# Altium schematic symbol library Connectors.SchLib: 16 symbols
Pins are listed as number, name and electrical type; pins without a type are passive.

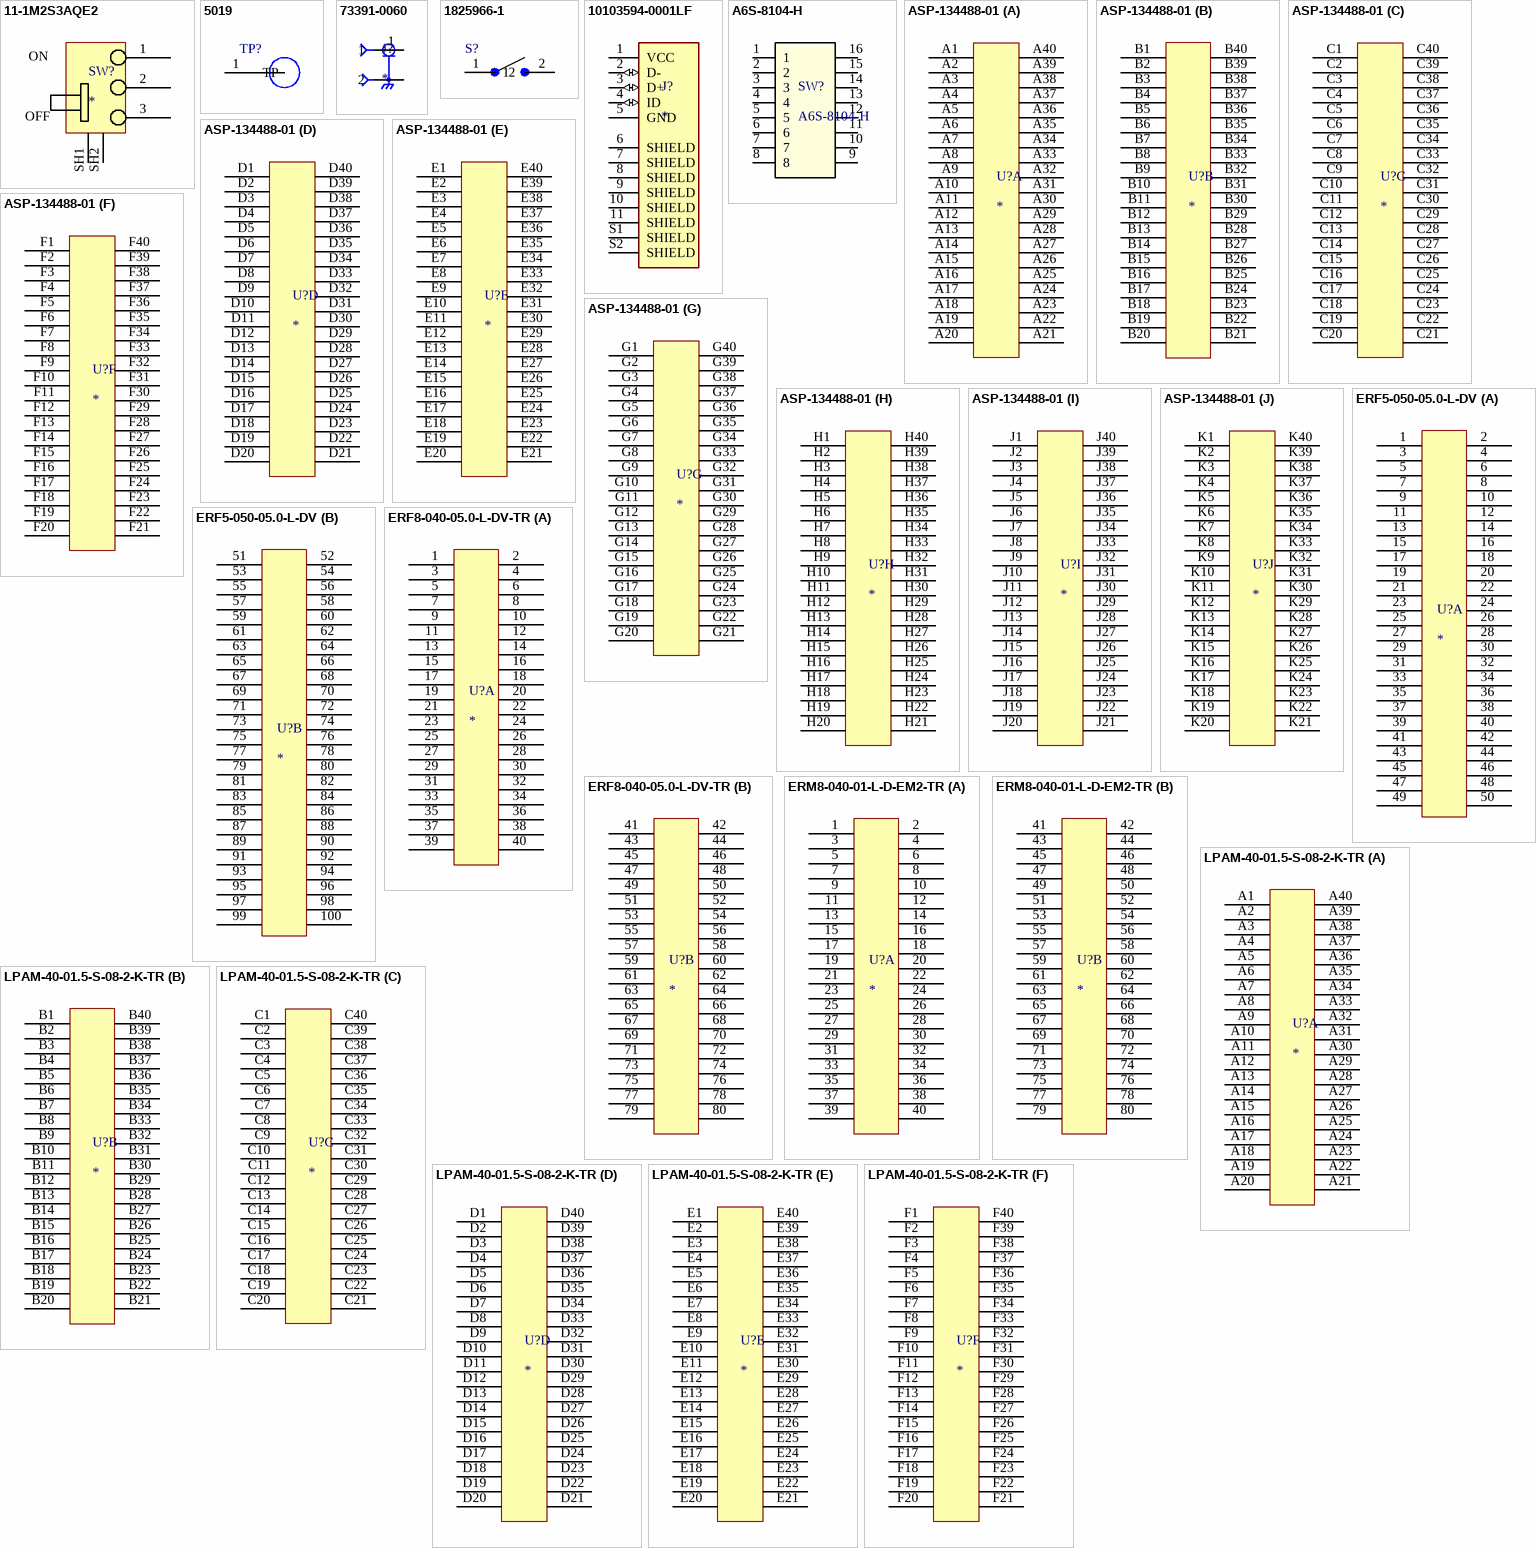
[diagram p0: symbols 11-1M2S3AQE2 to LPAM-40-01.5-S-08-2-K-TR]

## 11-1M2S3AQE2
designator SW?
SPDT, RIGHT ANGLE, PC THRU-HOLE
footprint 1101M2S3ABE2 (Horizontal Actuation SPDT Right Angle, PC THRU-HOLE); pin to pad SH1>4 SH2>5
pins: 1, 2, 3, SH1 4, SH2 5
text: ON; OFF

## 5019
designator TP?, comment Keystone_5019_Testpoint  (value not drawn)
MF: Keystone Electronics; MP: 5019; SnapEDA_Link: https://www.snapeda.com/parts/5019/Keystone%20Electronics/view-part/?ref=snap; Availability: Unavailable; Package: 2010 Keystone; Price: None; Value: *
footprint Keystone-5019-Testpoint
pins: 1 TP

## 73391-0060
designator J?
SMA Connector Receptacle, Female Socket 50Ohm Through Hole Solder; MF: Molex; MP: 73391-0060; SnapEDA_Link: https://www.snapeda.com/parts/73391-0060/Molex/view-part/53291/?ref=snap; Availability: Unavailable; Price: None; Package: None; Value: *
footprint MOLEX_73391-0060 (CONN SMA RCPT STR 50 OHM PCB)
pins: 1, 2, 3 2, 4 2, 5 2

## 1825966-1
designator S?  (value not drawn)
Switch Tactile OFF _ON_ SPST Rectangular Button PC Pins 0.05A 24VDC 20000Cycle 1.3N Thru-Hole Bulk; MF: TE Connectivity; SnapEDA_Link: https://www.snapeda.com/parts/1825966-1/TE%20Connectivity%20ALCOSWITCH%20Switches/view-part/?ref=snap; Package: None; Price: None; TE_purchase_URL: https://www.te.com/usa-en/product-1825966-1.html?te_bu=Cor&te_type=disp&te_campaign=seda_glo_cor-seda-global-disp-prtnr-fy19-seda-model-bom-cta_sma-317_1&elqCampaignId=32493; MP: 1825966-1; EU_RoHS_Compliance: Compliant; Availability: Unavailable; Value: *
footprint SPST_SW_1825966-1
pins: 1, 2

## 10103594-0001LF
designator J?
USB - micro B USB 2.0 Receptacle Connector 5 Position Surface Mount, Right Angle; Through Hole; MP: 10103594-0001LF; MF: Amphenol ICC (FCI); Package: None; Check_prices: https://www.snapeda.com/parts/10103594-0001LF/Amphenol%20FCI/view-part/5161044/?ref=eda; Purchase-URL: https://pricing.snapeda.com/search/part/10103594-0001LF/?ref=eda; Value: *; Availability: Good; Price: None; SnapEDA_Link: https://www.snapeda.com/parts/10103594-0001LF/Amphenol%20FCI/view-part/5161044/?ref=snap
footprint AMPHENOL_10103594-0001LF
pins: 1 VCC (power), 2 D- (io), 3 D+ (io), 4 ID (io), 5 GND (power), 6 SHIELD, 7 SHIELD, 8 SHIELD, 9 SHIELD, 10 SHIELD, 11 SHIELD, S1 SHIELD, S2 SHIELD

## A6S-8104-H
designator SW?
Dip Switch SPST 8 Position Surface Mount Slide (Standard) Actuator 25mA 24VDC; Vendor: Omron; Built_By: EMA_Kyle; SourceLibrary: Omron_2019-09-26; Manufacturer_Part_Number: A6S-8104-H; Copyright: Copyright (C) 2018 Accelerated Designs. All rights reserved; RefDes: RefDes; Type: DEV
footprint A6S-8101-H (SWITCH SLIDE DIP SPST, 8 Positions, IPC Medium Density)
pins: 1, 2, 3, 4, 5, 6, 7, 8, 9, 10, 11, 12, 13, 14, 15, 16

## ASP-134488-01
designator U?
VITA 57.4 Connector 40x10, 0.050 Pitch Terminal Array Assembly
footprint ASP-134488-01 (0.50 Pitch Terminal Array Assembly)
part A pins: A1, A2, A3, A4, A5, A6, A7, A8, A9, A10, A11, A12, A13, A14, A15, A16, A17, A18, A19, A20, A21, A22, A23, A24, A25, A26, A27, A28, A29, A30, A31, A32, A33, A34, A35, A36, A37, A38, A39, A40
part B pins: B1, B2, B3, B4, B5, B6, B7, B8, B9, B10, B11, B12, B13, B14, B15, B16, B17, B18, B19, B20, B21, B22, B23, B24, B25, B26, B27, B28, B29, B30, B31, B32, B33, B34, B35, B36, B37, B38, B39, B40
part C pins: C1, C2, C3, C4, C5, C6, C7, C8, C9, C10, C11, C12, C13, C14, C15, C16, C17, C18, C19, C20, C21, C22, C23, C24, C25, C26, C27, C28, C29, C30, C31, C32, C33, C34, C35, C36, C37, C38, C39, C40
part D pins: D1, D2, D3, D4, D5, D6, D7, D8, D9, D10, D11, D12, D13, D14, D15, D16, D17, D18, D19, D20, D21, D22, D23, D24, D25, D26, D27, D28, D29, D30, D31, D32, D33, D34, D35, D36, D37, D38, D39, D40
part E pins: E1, E2, E3, E4, E5, E6, E7, E8, E9, E10, E11, E12, E13, E14, E15, E16, E17, E18, E19, E20, E21, E22, E23, E24, E25, E26, E27, E28, E29, E30, E31, E32, E33, E34, E35, E36, E37, E38, E39, E40
part F pins: F1, F2, F3, F4, F5, F6, F7, F8, F9, F10, F11, F12, F13, F14, F15, F16, F17, F18, F19, F20, F21, F22, F23, F24, F25, F26, F27, F28, F29, F30, F31, F32, F33, F34, F35, F36, F37, F38, F39, F40
part G pins: G1, G2, G3, G4, G5, G6, G7, G8, G9, G10, G11, G12, G13, G14, G15, G16, G17, G18, G19, G20, G21, G22, G23, G24, G25, G26, G27, G28, G29, G30, G31, G32, G33, G34, G35, G36, G37, G38, G39, G40
part H pins: H1, H2, H3, H4, H5, H6, H7, H8, H9, H10, H11, H12, H13, H14, H15, H16, H17, H18, H19, H20, H21, H22, H23, H24, H25, H26, H27, H28, H29, H30, H31, H32, H33, H34, H35, H36, H37, H38, H39, H40
part I pins: J1, J2, J3, J4, J5, J6, J7, J8, J9, J10, J11, J12, J13, J14, J15, J16, J17, J18, J19, J20, J21, J22, J23, J24, J25, J26, J27, J28, J29, J30, J31, J32, J33, J34, J35, J36, J37, J38, J39, J40
part J pins: K1, K2, K3, K4, K5, K6, K7, K8, K9, K10, K11, K12, K13, K14, K15, K16, K17, K18, K19, K20, K21, K22, K23, K24, K25, K26, K27, K28, K29, K30, K31, K32, K33, K34, K35, K36, K37, K38, K39, K40

## ERF5-050-05.0-L-DV
designator U?
0.50 mm Edge Rate® Rugged High-Speed Socket Strip
footprint ERF5-050-05.0-L-DV (0.50 mm Edge Rate® Rugged High-Speed Socket Strip)
part A pins: 1, 2, 3, 4, 5, 6, 7, 8, 9, 10, 11, 12, 13, 14, 15, 16, 17, 18, 19, 20, 21, 22, 23, 24, 25, 26, 27, 28, 29, 30, 31, 32, 33, 34, 35, 36, 37, 38, 39, 40, 41, 42, 43, 44, 45, 46, 47, 48, 49, 50
part B pins: 51, 52, 53, 54, 55, 56, 57, 58, 59, 60, 61, 62, 63, 64, 65, 66, 67, 68, 69, 70, 71, 72, 73, 74, 75, 76, 77, 78, 79, 80, 81, 82, 83, 84, 85, 86, 87, 88, 89, 90, 91, 92, 93, 94, 95, 96, 97, 98, 99, 100

## ERF8-040-05.0-L-DV-TR
designator U?
0.80 mm Edge Rate® Rugged High-Speed Socket Strip
footprint ERF8-040-05.0-L-DV-TR (0.80 mm Edge Rate® Rugged High-Speed Socket Strip)
part A pins: 1, 2, 3, 4, 5, 6, 7, 8, 9, 10, 11, 12, 13, 14, 15, 16, 17, 18, 19, 20, 21, 22, 23, 24, 25, 26, 27, 28, 29, 30, 31, 32, 33, 34, 35, 36, 37, 38, 39, 40
part B pins: 41, 42, 43, 44, 45, 46, 47, 48, 49, 50, 51, 52, 53, 54, 55, 56, 57, 58, 59, 60, 61, 62, 63, 64, 65, 66, 67, 68, 69, 70, 71, 72, 73, 74, 75, 76, 77, 78, 79, 80

## ERM8-040-01-L-D-EM2-TR
designator U?
0.80 mm Edge Rate® Rugged High-Speed Terminal Strip, Edge Mount
footprint ERM8-040-01-L-D-EM2-L-TR (0.80 mm Edge Rate® Rugged High-Speed Socket Strip, Edge Mount)
part A pins: 1, 2, 3, 4, 5, 6, 7, 8, 9, 10, 11, 12, 13, 14, 15, 16, 17, 18, 19, 20, 21, 22, 23, 24, 25, 26, 27, 28, 29, 30, 31, 32, 33, 34, 35, 36, 37, 38, 39, 40
part B pins: 41, 42, 43, 44, 45, 46, 47, 48, 49, 50, 51, 52, 53, 54, 55, 56, 57, 58, 59, 60, 61, 62, 63, 64, 65, 66, 67, 68, 69, 70, 71, 72, 73, 74, 75, 76, 77, 78, 79, 80

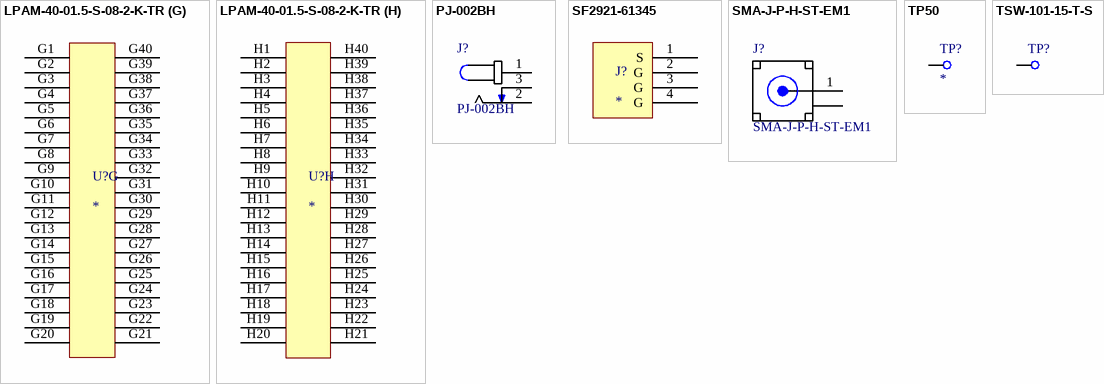
[diagram p1: symbols LPAM-40-01.5-S-08-2-K-TR to TSW-101-15-T-S]

## LPAM-40-01.5-S-08-2-K-TR
designator U?
.050" LP Array™ High-Speed High-Density Low Profile Open-Pin-Field Array, Terminal
footprint LPAM-40-01.5-S-08-2-K-TR (.050" LP Array™ High-Speed High-Density Low Profile Open-Pin-Field Array, Terminal)
part A pins: A1, A2, A3, A4, A5, A6, A7, A8, A9, A10, A11, A12, A13, A14, A15, A16, A17, A18, A19, A20, A21, A22, A23, A24, A25, A26, A27, A28, A29, A30, A31, A32, A33, A34, A35, A36, A37, A38, A39, A40
part B pins: B1, B2, B3, B4, B5, B6, B7, B8, B9, B10, B11, B12, B13, B14, B15, B16, B17, B18, B19, B20, B21, B22, B23, B24, B25, B26, B27, B28, B29, B30, B31, B32, B33, B34, B35, B36, B37, B38, B39, B40
part C pins: C1, C2, C3, C4, C5, C6, C7, C8, C9, C10, C11, C12, C13, C14, C15, C16, C17, C18, C19, C20, C21, C22, C23, C24, C25, C26, C27, C28, C29, C30, C31, C32, C33, C34, C35, C36, C37, C38, C39, C40
part D pins: D1, D2, D3, D4, D5, D6, D7, D8, D9, D10, D11, D12, D13, D14, D15, D16, D17, D18, D19, D20, D21, D22, D23, D24, D25, D26, D27, D28, D29, D30, D31, D32, D33, D34, D35, D36, D37, D38, D39, D40
part E pins: E1, E2, E3, E4, E5, E6, E7, E8, E9, E10, E11, E12, E13, E14, E15, E16, E17, E18, E19, E20, E21, E22, E23, E24, E25, E26, E27, E28, E29, E30, E31, E32, E33, E34, E35, E36, E37, E38, E39, E40
part F pins: F1, F2, F3, F4, F5, F6, F7, F8, F9, F10, F11, F12, F13, F14, F15, F16, F17, F18, F19, F20, F21, F22, F23, F24, F25, F26, F27, F28, F29, F30, F31, F32, F33, F34, F35, F36, F37, F38, F39, F40
part G pins: G1, G2, G3, G4, G5, G6, G7, G8, G9, G10, G11, G12, G13, G14, G15, G16, G17, G18, G19, G20, G21, G22, G23, G24, G25, G26, G27, G28, G29, G30, G31, G32, G33, G34, G35, G36, G37, G38, G39, G40
part H pins: H1, H2, H3, H4, H5, H6, H7, H8, H9, H10, H11, H12, H13, H14, H15, H16, H17, H18, H19, H20, H21, H22, H23, H24, H25, H26, H27, H28, H29, H30, H31, H32, H33, H34, H35, H36, H37, H38, H39, H40

## PJ-002BH
designator J?
CONN PWR JACK 2.5X5.5MM SOLDER; Value: *
footprint CUI_PJ-002BH (ONN PWR JACK 2.5X5.5MM SOLDER)
pins: 1, 2, 3

## SF2921-61345
designator J?
SMA JACK 2 HOLE FLANGE / WITH 0-80 UNF THREAD
footprint SF2921-61345 (SMA JACK 2 HOLE FLANGE  WITH 0-80 UNF THREAD)
pins: 1 S, 2 G, 3 G, 4 G

## SMA-J-P-H-ST-EM1
designator J?
Connector SMA F 50Ohm Solder ST Edge Mount Gold Over Nickel Tray; MF: Samtec; Price: None; SnapEDA_Link: https://www.snapeda.com/parts/SMA-J-P-H-ST-EM1/Samtec%20Inc./view-part/?ref=snap; MP: SMA-J-P-H-ST-EM1; Package: None; Availability: Unavailable; Value: *
footprint SMA-J-P-H-ST-EM1
pins: 1 SIGNAL, 2_1 GND (power), 2_2 GND (power), 3_1 GND (power), 3_2 GND (power)

## TP50
designator TP?
Test point 50mil diameter
footprint TP-50 (Testpoint 50mil diameter)
pins: 1

## TSW-101-15-T-S
designator TP?  (value not drawn)
CONN HEADER VERT 1POS
footprint TSW-101-15-T-S (CONN HEADER VERT 1POS)
pins: 1